# EAGLE library part TEXAS_INSTRUMENTS-MOTOR_PWM_DRIVER-DRV8881EPWP (library Module_ICs)
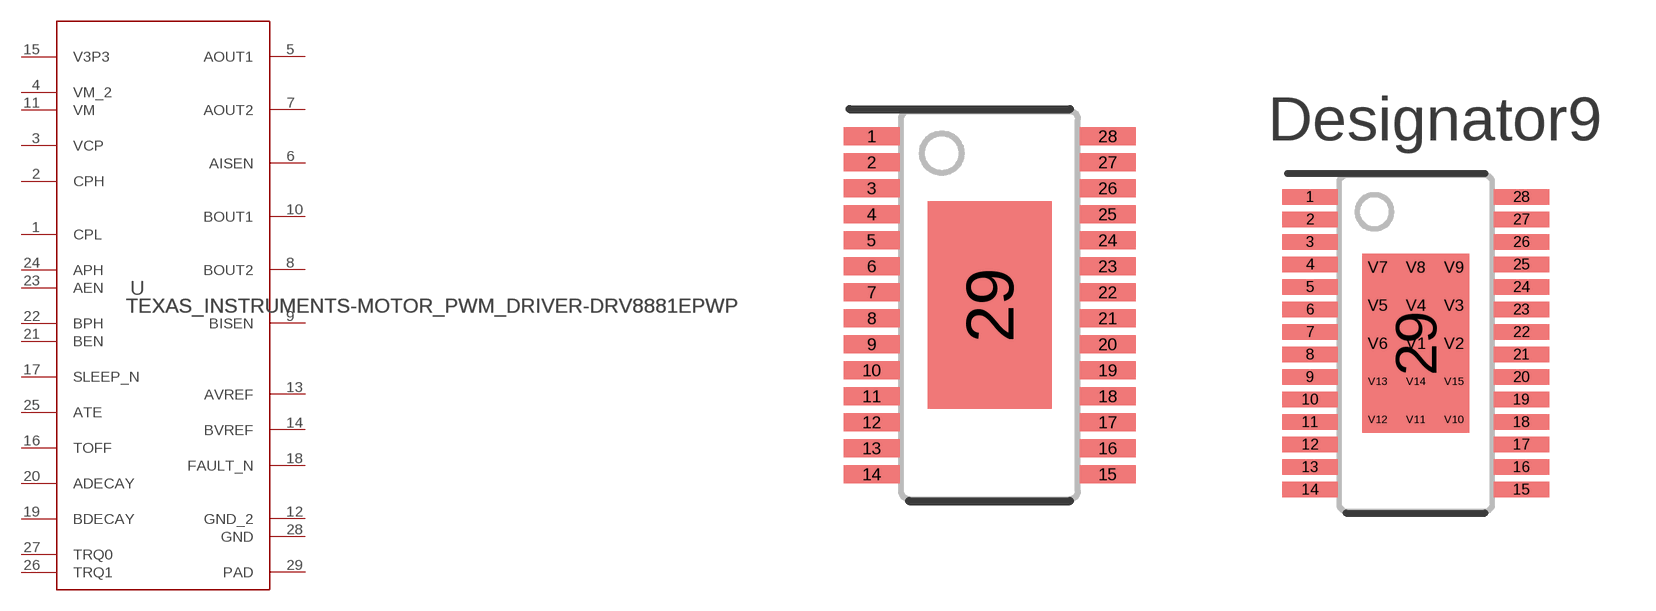
[diagram p70: symbol with the pads of PWP0028C_N; footprints PWP0028C_N, PWP0028C_M]

Designator prefix U

## TEXAS_INSTRUMENTS-MOTOR_PWM_DRIVER-DRV8881EPWP (ALTERNATE_PARTNUMBER: DRV8881EPWP; APPLICATION_BUILDNUMBER: *; COMPTYPE: IC; MANUFACTURER: Texas Instruments; MOUNTTYPE: SMT; PACKAGEREFERENCE: PWP0028C; PARTNUMBER: DRV8881EPWPR; PIN_COUNT: 29; REFDES: RefDes; TYPE: TYPE; VALUE: Value)  [PWP0028C_N]
1  CPL  pas
2  CPH  pas
3  VCP  pas
4  VM_2  pwr
5  AOUT1  out
6  AISEN  pas
7  AOUT2  out
8  BOUT2  out
9  BISEN  pas
10  BOUT1  out
11  VM  pwr
12  GND_2  pwr
13  AVREF  in
14  BVREF  in
15  V3P3  pwr
16  TOFF  in
17  SLEEP_N  in
18  FAULT_N  oc
19  BDECAY  in
20  ADECAY  in
21  BEN  in
22  BPH  in
23  AEN  in
24  APH  in
25  ATE  in
26  TRQ1  in
27  TRQ0  in
28  GND  pwr
29  PAD  pwr

## TEXAS_INSTRUMENTS-MOTOR_PWM_DRIVER-DRV8881EPWPPWP0028C_M (ALTERNATE_PARTNUMBER: DRV8881EPWP; APPLICATION_BUILDNUMBER: *; COMPTYPE: IC; MANUFACTURER: Texas Instruments; MOUNTTYPE: SMT; PACKAGEREFERENCE: PWP0028C; PARTNUMBER: DRV8881EPWPR; PIN_COUNT: 29; REFDES: RefDes; TYPE: TYPE; VALUE: Value)  [PWP0028C_M]
Pads as for PWP0028C_N

## TEXAS_INSTRUMENTS-MOTOR_PWM_DRIVER-DRV8881EPWPPWP0028C_L (ALTERNATE_PARTNUMBER: DRV8881EPWP; APPLICATION_BUILDNUMBER: *; COMPTYPE: IC; MANUFACTURER: Texas Instruments; MOUNTTYPE: SMT; PACKAGEREFERENCE: PWP0028C; PARTNUMBER: DRV8881EPWPR; PIN_COUNT: 29; REFDES: RefDes; TYPE: TYPE; VALUE: Value)  [PWP0028C_L]
Pads as for PWP0028C_N

## Footprint PWP0028C_N (pad centres in mm)
smd 1.4 x 0.45: 1 -2.95,4.225; 2 -2.95,3.575; 3 -2.95,2.925; 4 -2.95,2.275; 5 -2.95,1.625; 6 -2.95,0.975; 7 -2.95,0.325; 8 -2.95,-0.325; 9 -2.95,-0.975; 10 -2.95,-1.625; 11 -2.95,-2.275; 12 -2.95,-2.925; 13 -2.95,-3.575; 14 -2.95,-4.225; 15 2.95,-4.225; 16 2.95,-3.575; 17 2.95,-2.925; 18 2.95,-2.275; 19 2.95,-1.625; 20 2.95,-0.975; 21 2.95,-0.325; 22 2.95,0.325; 23 2.95,0.975; 24 2.95,1.625; 25 2.95,2.275; 26 2.95,2.925; 27 2.95,3.575; 28 2.95,4.225
smd 3.1 x 5.18: 29 0,0

## Footprint PWP0028C_M (pad centres in mm)
smd 1.6 x 0.45: 1 -3.05,4.225; 2 -3.05,3.575; 3 -3.05,2.925; 4 -3.05,2.275; 5 -3.05,1.625; 6 -3.05,0.975; 7 -3.05,0.325; 8 -3.05,-0.325; 9 -3.05,-0.975; 10 -3.05,-1.625; 11 -3.05,-2.275; 12 -3.05,-2.925; 13 -3.05,-3.575; 14 -3.05,-4.225; 15 3.05,-4.225; 16 3.05,-3.575; 17 3.05,-2.925; 18 3.05,-2.275; 19 3.05,-1.625; 20 3.05,-0.975; 21 3.05,-0.325; 22 3.05,0.325; 23 3.05,0.975; 24 3.05,1.625; 25 3.05,2.275; 26 3.05,2.925; 27 3.05,3.575; 28 3.05,4.225
smd 3.1 x 5.18: 29 0,0
smd 0.5 x 0.5: V1 0,0; V2 1.1,0; V3 1.1,1.1; V4 0,1.1; V5 -1.1,1.1; V6 -1.1,0; V7 -1.1,2.2; V8 0,2.2; V9 1.1,2.2; V10 1.1,-2.2; V11 0,-2.2; V12 -1.1,-2.2; V13 -1.1,-1.1; V14 0,-1.1; V15 1.1,-1.1

## Footprint PWP0028C_L (pad centres in mm)
smd 1.2 x 0.4: 1 -2.85,4.225; 2 -2.85,3.575; 3 -2.85,2.925; 4 -2.85,2.275; 5 -2.85,1.625; 6 -2.85,0.975; 7 -2.85,0.325; 8 -2.85,-0.325; 9 -2.85,-0.975; 10 -2.85,-1.625; 11 -2.85,-2.275; 12 -2.85,-2.925; 13 -2.85,-3.575; 14 -2.85,-4.225; 15 2.85,-4.225; 16 2.85,-3.575; 17 2.85,-2.925; 18 2.85,-2.275; 19 2.85,-1.625; 20 2.85,-0.975; 21 2.85,-0.325; 22 2.85,0.325; 23 2.85,0.975; 24 2.85,1.625; 25 2.85,2.275; 26 2.85,2.925; 27 2.85,3.575; 28 2.85,4.225
smd 3.1 x 5.18: 29 0,0
smd 0.5 x 0.5: V1 1.1,-1.1; V2 0,-1.1; V3 -1.1,-1.1; V4 -1.1,-2.2; V5 0,-2.2; V6 1.1,-2.2; V7 1.1,2.2; V8 0,2.2; V9 -1.1,2.2; V10 -1.1,0; V11 -1.1,1.1; V12 0,1.1; V13 1.1,1.1; V14 1.1,0; V15 0,0